# Altium footprint library BGA81C50P9X9_481X481X62.PcbLib: 1 footprints
Each footprint in its own frame and in the unit in brackets; x right, y up, seen from the top. Pads: shape width x height; smd on the part's side, far side on the other; paste and mask are expansions set on the pad; w line width, h text height; cw(c..) or ccw(c..) is an arc to the next point about the centre after c.
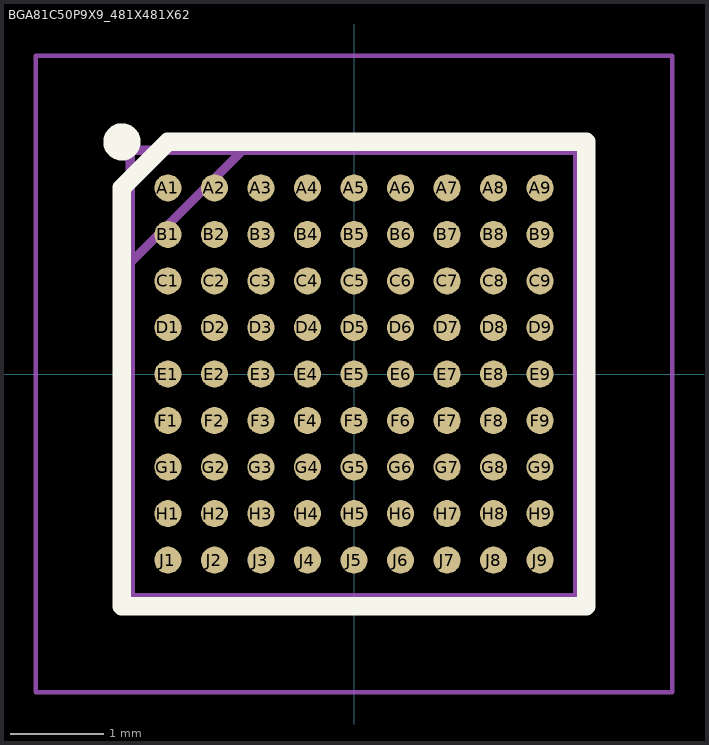
[diagram p0: the footprint, top view; thin cyan lines are the x and y axes]

## BGA81C50P9X9_481X481X62 [mm]
pads (81):
  round 0.29 smd: A1(-2,2) A2(-1.5,2) A3(-1,2) A4(-0.5,2) A5(0,2) A6(0.5,2) A7(1,2) A8(1.5,2) A9(2,2) B1(-2,1.5) B2(-1.5,1.5) B3(-1,1.5) B4(-0.5,1.5) B5(0,1.5) B6(0.5,1.5) B7(1,1.5) B8(1.5,1.5) B9(2,1.5) C1(-2,1) C2(-1.5,1) C3(-1,1) C4(-0.5,1) C5(0,1) C6(0.5,1) C7(1,1) C8(1.5,1) C9(2,1) D1(-2,0.5) D2(-1.5,0.5) D3(-1,0.5) D4(-0.5,0.5) D5(0,0.5) D6(0.5,0.5) D7(1,0.5) D8(1.5,0.5) D9(2,0.5) E1(-2,0) E2(-1.5,0) E3(-1,0) E4(-0.5,0) E5(0,0) E6(0.5,0) E7(1,0) E8(1.5,0) E9(2,0) F1(-2,-0.5) F2(-1.5,-0.5) F3(-1,-0.5) F4(-0.5,-0.5) F5(0,-0.5) F6(0.5,-0.5) F7(1,-0.5) F8(1.5,-0.5) F9(2,-0.5) G1(-2,-1) G2(-1.5,-1) G3(-1,-1) G4(-0.5,-1) G5(0,-1) G6(0.5,-1) G7(1,-1) G8(1.5,-1) G9(2,-1) H1(-2,-1.5) H2(-1.5,-1.5) H3(-1,-1.5) H4(-0.5,-1.5) H5(0,-1.5) H6(0.5,-1.5) H7(1,-1.5) H8(1.5,-1.5) H9(2,-1.5) J1(-2,-2) J2(-1.5,-2) J3(-1,-2) J4(-0.5,-2) J5(0,-2) J6(0.5,-2) J7(1,-2) J8(1.5,-2) J9(2,-2)
Top Overlay:
  circle w0.2: c-2.495,2.495 r0.1
  lines w0.2: -2.495,-2.495 2.495,-2.495 2.495,2.495 -2,2.495 -2.495,2 -2.495,-2.495
Mechanical 15:
  lines w0.1: -2.405,1.195 -1.195,2.405 ; -2.405,-2.405 2.405,-2.405 2.405,2.405 -2.405,2.405 -2.405,-2.405
Mechanical 20:
  lines w0.05: -3.42,-3.42 3.42,-3.42 3.42,3.42 -3.42,3.42 -3.42,-3.42